# Altium footprint library PcbLib1.PcbLib: 7 footprints
Each footprint in its own frame and in the unit in brackets; x right, y up, seen from the top. Pads: shape width x height; smd on the part's side, far side on the other; paste and mask are expansions set on the pad; w line width, h text height; cw(c..) or ccw(c..) is an arc to the next point about the centre after c.
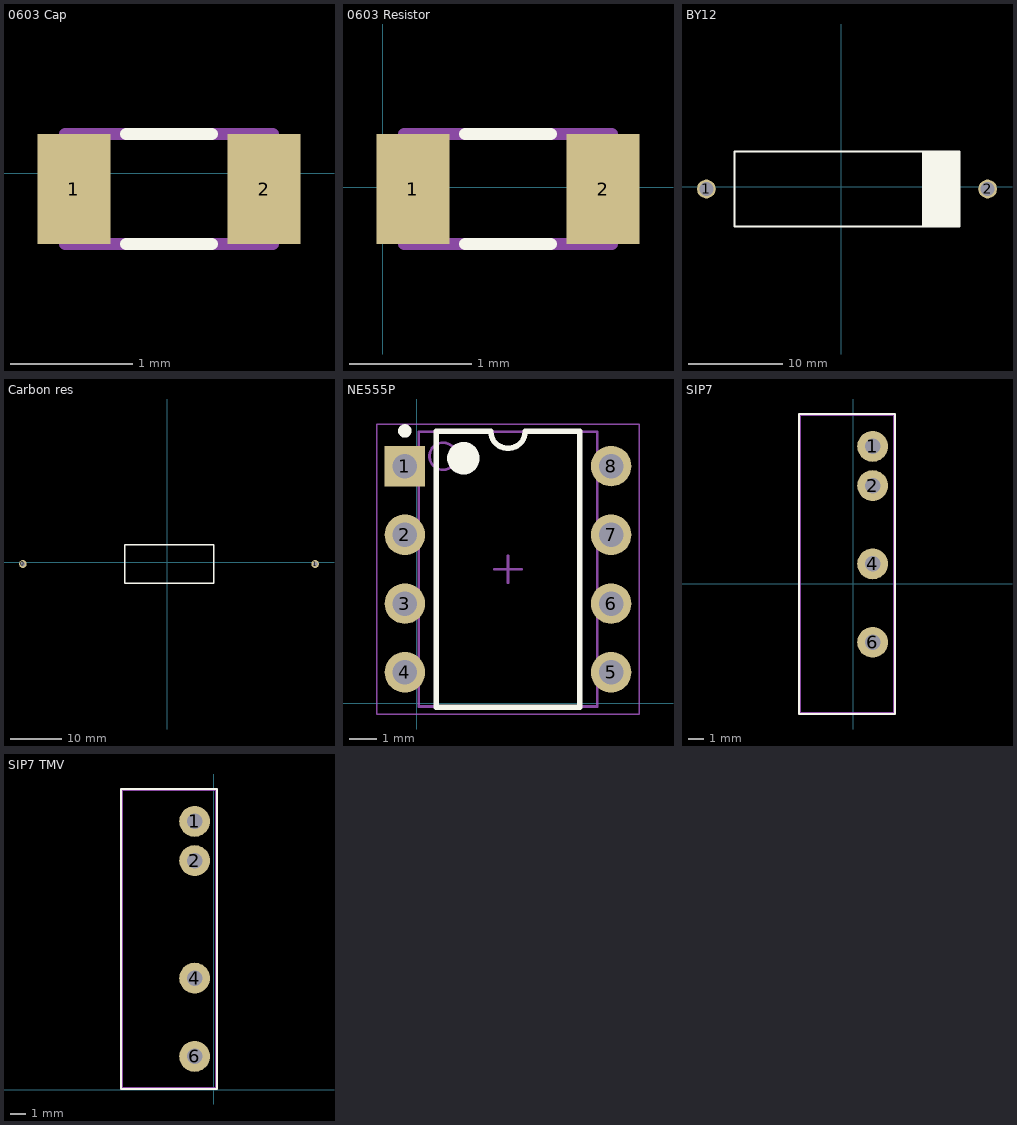
[diagram p0: the footprints below, top view; thin cyan lines are the x and y axes]

## 0603 Cap [mm]
pads (2):
  rect 0.6x0.9 smd: 1(0.63,-0.13) 2(2.19,-0.13)
Top Overlay:
  lines w0.1: 1.06,-0.58 1.76,-0.58 ; 1.06,0.32 1.76,0.32
Mechanical 13:
  lines w0.1: 0.56,-0.58 2.26,-0.58 2.26,0.32 0.56,0.32 0.56,-0.58
3D body "CAPC-0603-T0.9-BN.stp": height 0.9, standoff 0, extent 0.585,-0.579 2.285,0.32

## 0603 Resistor [mm]
pads (2):
  rect 0.6x0.9 smd: 1(0.246,-0.014) 2(1.806,-0.014)
Top Overlay:
  lines w0.1: 0.676,-0.464 1.376,-0.464 ; 0.676,0.436 1.376,0.436
Mechanical 13:
  lines w0.1: 0.176,-0.464 1.876,-0.464 1.876,0.436 0.176,0.436 0.176,-0.464
3D body: height 0.55, standoff 0, extent 0.176,-0.464 1.876,0.436

## BY12 [mm]
pads (2):
  round 2 hole 1.5: 1(-14.365,-0.254) 2(15.635,-0.254)
Top Overlay:
  rectangle: 8.635,-4.254 12.635,3.746
  lines w0.254: -11.365,-4.254 12.635,-4.254 12.635,3.746 -11.365,3.746 -11.365,-4.254

## Carbon res [mm]
pads (2):
  round 1.524 hole 0.9: 0(-28.374,-0.355) 1(29.101,-0.355)
Top Overlay:
  lines w0.254: -8.374,-4.105 -8.374,0.895 -8.374,3.395 9.126,3.395 9.126,-4.105 -8.374,-4.105

## NE555P [mm] "DIP, 8-Leads, Body 10.15x6.6mm, Pitch 2.54mm"
pads (8):
  rect 1.5x1.5 hole 0.9: 1(-0.44,8.768)
  round 1.5 hole 0.9: 2(-0.44,6.228) 3(-0.44,3.688) 4(-0.44,1.148) 5(7.18,1.148) 6(7.18,3.688) 7(7.18,6.228) 8(7.18,8.768)
Top Overlay:
  circle w0.6: c1.72,9.058 r0.3
  circle w0.25: c-0.44,10.068 r0.125
  lines w0.2: 0.72,-0.142 6.02,-0.142 6.02,10.058 4.005,10.058 cw(c3.37,10.058) 2.735,10.058 0.72,10.058 0.72,-0.142
Mechanical 13:
  circle w0.1: c0.97,9.133 r0.5
  lines w0.1: 0.07,-0.117 6.67,-0.117 6.67,10.033 0.07,10.033 0.07,-0.117
Mechanical 15:
  lines w0.05: -1.48,-0.392 8.22,-0.392 8.22,10.308 -1.48,10.308 -1.48,-0.392
  lines w0.1: 2.87,4.958 3.87,4.958 ; 3.37,4.458 3.37,5.458
3D body: height 5.08, standoff 0.51, extent 0.07,-0.117 6.67,10.033
3D body: height 0, standoff -1.6, extent 7.045,8.408 7.315,9.128
3D body: height 2.93, standoff 2.66, extent 6.67,8.268 7.315,9.268
3D body: height 2.66, standoff 0, extent 7.045,8.268 7.315,9.268
3D body: height 0, standoff -1.6, extent 7.045,5.868 7.315,6.588
3D body: height 2.93, standoff 2.66, extent 6.67,5.728 7.315,6.728
3D body: height 2.66, standoff 0, extent 7.045,5.728 7.315,6.728
3D body: height 0, standoff -1.6, extent 7.045,3.328 7.315,4.048
3D body: height 2.93, standoff 2.66, extent 6.67,3.188 7.315,4.188
3D body: height 2.66, standoff 0, extent 7.045,3.188 7.315,4.188
3D body: height 0, standoff -1.6, extent 7.045,0.788 7.315,1.508
3D body: height 2.93, standoff 2.66, extent 6.67,0.648 7.315,1.648
3D body: height 2.66, standoff 0, extent 7.045,0.648 7.315,1.648
3D body: height 0, standoff -1.6, extent -0.575,0.788 -0.305,1.508
3D body: height 2.93, standoff 2.66, extent -0.575,0.648 0.07,1.648
3D body: height 2.66, standoff 0, extent -0.575,0.648 -0.305,1.648
3D body: height 0, standoff -1.6, extent -0.575,3.328 -0.305,4.048
3D body: height 2.93, standoff 2.66, extent -0.575,3.188 0.07,4.188
3D body: height 2.66, standoff 0, extent -0.575,3.188 -0.305,4.188
3D body: height 0, standoff -1.6, extent -0.575,5.868 -0.305,6.588
3D body: height 2.93, standoff 2.66, extent -0.575,5.728 0.07,6.728
3D body: height 2.66, standoff 0, extent -0.575,5.728 -0.305,6.728
3D body: height 0, standoff -1.6, extent -0.575,8.408 -0.305,9.128
3D body: height 2.93, standoff 2.66, extent -0.575,8.268 0.07,9.268
3D body: height 2.66, standoff 0, extent -0.575,8.268 -0.305,9.268

## SIP7 [mm]
pads (4):
  round 2 hole 1: 1(1.27,8.89) 2(1.27,6.35) 4(1.27,1.27) 6(1.27,-3.81)
Top Overlay:
  lines w0.1: -3.505,-8.46 -3.505,10.99 2.72,10.99 2.72,-8.46 -3.505,-8.46
Mechanical 13:
  lines w0.1: -3.43,-8.385 -3.43,10.915 2.645,10.915 2.645,-8.385 -3.43,-8.385
3D body "User Library-SIP-4(7)_A6.step": height 10.16, standoff -2.25, extent -3.43,-8.38 2.66,10.92

## SIP7 TMV [mm]
pads (4):
  round 2 hole 1: 1(-1.23,17.39) 2(-1.23,14.85) 4(-1.23,7.23) 6(-1.23,2.15)
Top Overlay:
  lines w0.1: -6.005,0.04 0.22,0.04 0.22,19.49 -6.005,19.49 -6.005,0.04
Mechanical 13:
  lines w0.1: -5.93,0.115 0.145,0.115 0.145,19.415 -5.93,19.415 -5.93,0.115
3D body: height 0.25, standoff 0, extent -5.93,0.12 0.16,19.42